# EAGLE library part JST-SH-4 (library Ooo-Connectors)
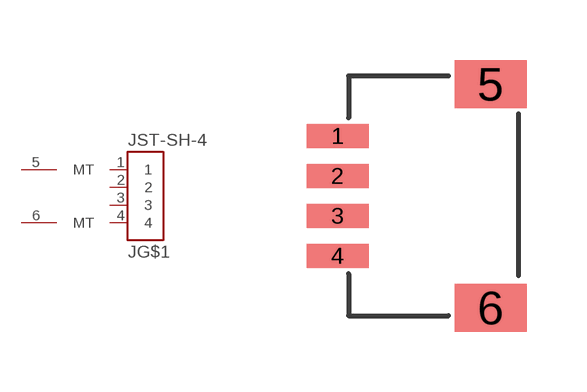
[diagram p0: symbol with the pads of JST-S4B-SH-SM4-TB; footprint JST-S4B-SH-SM4-TB]

Designator prefix J; gates G$1=JST-4 G$2=MOUNTING G$3=MOUNTING

## JST-SH-4  [JST-S4B-SH-SM4-TB]
1  G$1:1
2  G$1:2
3  G$1:3
4  G$1:4
5  G$2:MT
6  G$3:MT

## Footprint JST-S4B-SH-SM4-TB (pad centres in mm)
JST SH-4
smd 1.55 x 0.6: 1 -4.525,1.5; 2 -4.525,0.5; 3 -4.525,-0.5; 4 -4.525,-1.5
smd 1.8 x 1.2: 5 -0.7,2.8; 6 -0.7,-2.8